# EAGLE library part BTS723GW (library lib_stankus)
Infineon BTS723GW Farnell #2432500
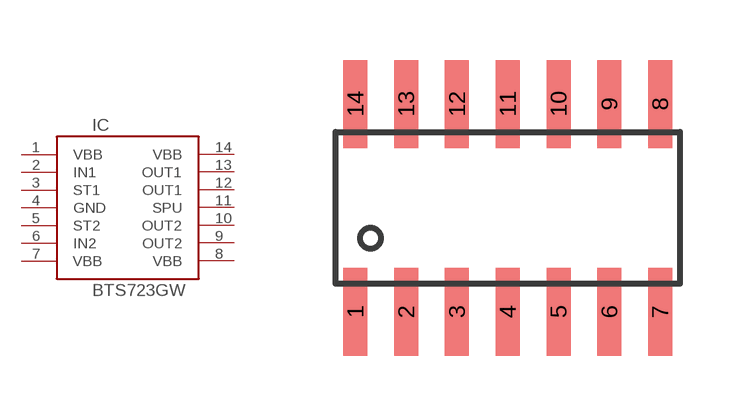
[diagram p103: symbol with the pads of SO14; footprint SO14]

Designator prefix IC

## BTS723GW-SO14  [SO14]
1  VBB  pas
2  IN1  pas
3  ST1  pas
4  GND  pas
5  ST2  pas
6  IN2  pas
7  VBB  pas
8  VBB  pas
9  OUT2  pas
10  OUT2  pas
11  SPU  pas
12  OUT1  pas
13  OUT1  pas
14  VBB  pas

## Footprint SO14 (pad centres in mm)
SO14
smd 0.6 x 2.2: 1 -3.81,-2.6; 2 -2.54,-2.6; 3 -1.27,-2.6; 4 0,-2.6; 5 1.27,-2.6; 6 2.54,-2.6; 7 3.81,-2.6; 8 3.81,2.6; 9 2.54,2.6; 10 1.27,2.6; 11 0,2.6; 12 -1.27,2.6; 13 -2.54,2.6; 14 -3.81,2.6